# Altium footprint library NCP1117ST33T3G.PcbLib: 3 footprints
Each footprint in its own frame and in the unit in brackets; x right, y up, seen from the top. Pads: shape width x height; smd on the part's side, far side on the other; paste and mask are expansions set on the pad; w line width, h text height; cw(c..) or ccw(c..) is an arc to the next point about the centre after c.
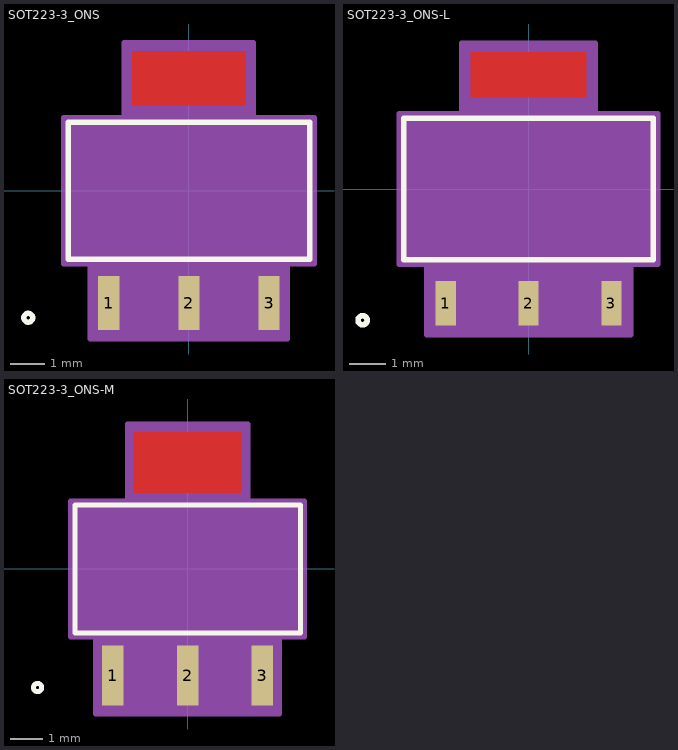
[diagram p0: the footprints below, top view; thin cyan lines are the x and y axes]

## SOT223-3_ONS [mil]
pads (3):
  rect 24x61 smd paste+0 mask+0: 1(-90.5,-127) 2(0,-127) 3(90.5,-127)
Top Layer:
  region: 64,96.5 64,157.5 -64,157.5 -64,96.5
Top Overlay:
  circle w6: c-181.5,-143.5 r5
  lines w6: -136.5,-77.5 136.5,-77.5 136.5,77.5 -136.5,77.5 -136.5,-77.5
  text ".Designator" at -137.5,-25 h50
Top Paste:
  region: 64,96.5 64,157.5 -64,157.5 -64,96.5
Top Solder:
  region: 65,82.5 65,171.5 -65,171.5 -65,82.5
Mechanical 13:
  circle w1: c-121.5,-62.5 r5
  lines w1: -131.5,-72.5 131.5,-72.5 131.5,72.5 -131.5,72.5 -131.5,-72.5 ; -101.5,-143.5 -101.5,-72.5 -79.5,-72.5 -79.5,-143.5 -101.5,-143.5 ; -63,72.5 63,72.5 63,143.5 -63,143.5 -63,72.5 ; -11,-143.5 -11,-72.5 11,-72.5 11,-143.5 -11,-143.5 ; 79.5,-143.5 79.5,-72.5 101.5,-72.5 101.5,-143.5 79.5,-143.5
  text ".Designator" at -137.5,-25 h50
Mechanical 15:
  region: -141.5,-82.5 -141.5,82.5 -73,82.5 -73,167.5 73,167.5 73,82.5 141.5,82.5 141.5,-82.5 111.5,-82.5 111.5,-167.5 -111.5,-167.5 -111.5,-82.5
  lines w6: -141.5,-82.5 -141.5,82.5 -73,82.5 -73,167.5 73,167.5 73,82.5 141.5,82.5 141.5,-82.5 111.5,-82.5 111.5,-167.5 -111.5,-167.5 -111.5,-82.5 -141.5,-82.5
3D body "SOT223-3_ONS.step": height 68.11, standoff 0, extent -131.5,-143.5 131.5,143.5

## SOT223-3_ONS-L [mil]
pads (3):
  rect 22x49 smd paste+0 mask+0: 1(-90.5,-125) 2(0,-125) 3(90.5,-125)
Top Layer:
  region: 63,100.5 63,149.5 -63,149.5 -63,100.5
Top Overlay:
  circle w6: c-181.5,-143.5 r5
  lines w6: -136.5,-77.5 136.5,-77.5 136.5,77.5 -136.5,77.5 -136.5,-77.5
  text ".Designator" at -137.5,-25 h50
Top Paste:
  region: 63,100.5 63,149.5 -63,149.5 -63,100.5
Top Solder:
  region: 63,90.5 63,155.5 -63,155.5 -63,90.5
Mechanical 13:
  circle w1: c-121.5,-62.5 r5
  lines w1: -131.5,-72.5 131.5,-72.5 131.5,72.5 -131.5,72.5 -131.5,-72.5 ; -101.5,-143.5 -101.5,-72.5 -79.5,-72.5 -79.5,-143.5 -101.5,-143.5 ; -63,72.5 63,72.5 63,143.5 -63,143.5 -63,72.5 ; -11,-143.5 -11,-72.5 11,-72.5 11,-143.5 -11,-143.5 ; 79.5,-143.5 79.5,-72.5 101.5,-72.5 101.5,-143.5 79.5,-143.5
  text ".Designator" at -137.5,-25 h50
Mechanical 15:
  region: -141.5,-82.5 -141.5,82.5 -73,82.5 -73,159.5 73,159.5 73,82.5 141.5,82.5 141.5,-82.5 111.5,-82.5 111.5,-159.5 -111.5,-159.5 -111.5,-82.5
  lines w6: -141.5,-82.5 -141.5,82.5 -73,82.5 -73,159.5 73,159.5 73,82.5 141.5,82.5 141.5,-82.5 111.5,-82.5 111.5,-159.5 -111.5,-159.5 -111.5,-82.5 -141.5,-82.5
3D body "SOT223-3_ONS.step": height 68.11, standoff 0, extent -131.5,-143.5 131.5,143.5

## SOT223-3_ONS-M [mil]
pads (3):
  rect 26x73 smd paste+0 mask+0: 1(-90.5,-129) 2(0,-129) 3(90.5,-129)
Top Layer:
  region: 65,92.5 65,165.5 -65,165.5 -65,92.5
Top Overlay:
  circle w6: c-181.5,-143.5 r5
  lines w6: -136.5,-77.5 136.5,-77.5 136.5,77.5 -136.5,77.5 -136.5,-77.5
  text ".Designator" at -137.5,-25 h50
Top Paste:
  region: 65,92.5 65,165.5 -65,165.5 -65,92.5
Top Solder:
  region: 67,74.5 67,187.5 -67,187.5 -67,74.5
Mechanical 13:
  circle w1: c-121.5,-62.5 r5
  lines w1: -131.5,-72.5 131.5,-72.5 131.5,72.5 -131.5,72.5 -131.5,-72.5 ; -101.5,-143.5 -101.5,-72.5 -79.5,-72.5 -79.5,-143.5 -101.5,-143.5 ; -63,72.5 63,72.5 63,143.5 -63,143.5 -63,72.5 ; -11,-143.5 -11,-72.5 11,-72.5 11,-143.5 -11,-143.5 ; 79.5,-143.5 79.5,-72.5 101.5,-72.5 101.5,-143.5 79.5,-143.5
  text ".Designator" at -137.5,-25 h50
Mechanical 15:
  region: -141.5,-82.5 -141.5,82.5 -73,82.5 -73,175.5 73,175.5 73,82.5 141.5,82.5 141.5,-82.5 111.5,-82.5 111.5,-175.5 -111.5,-175.5 -111.5,-82.5
  lines w6: -141.5,-82.5 -141.5,82.5 -73,82.5 -73,175.5 73,175.5 73,82.5 141.5,82.5 141.5,-82.5 111.5,-82.5 111.5,-175.5 -111.5,-175.5 -111.5,-82.5 -141.5,-82.5
3D body "SOT223-3_ONS.step": height 68.11, standoff 0, extent -131.5,-143.5 131.5,143.5